# EAGLE library part M07X2 (library GW-devices)
Header 5x2 Standard 10-pin dual row 0.1" header. Commonly used with AVR-ISP. Use with Spark Fun Electronics SKU: PRT-00778
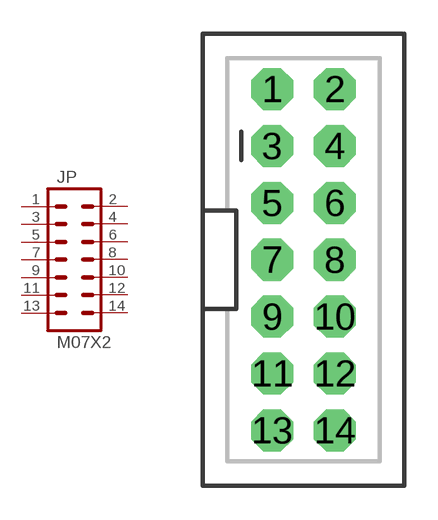
[diagram p41: symbol with the pads of 2X7-SHROUDED_LOCK; footprint 2X7-SHROUDED_LOCK]

Designator prefix JP

## M07X2SHD  [2X7-SHROUDED_LOCK]
1  1  pas
2  2  pas
3  3  pas
4  4  pas
5  5  pas
6  6  pas
7  7  pas
8  8  pas
9  9  pas
10  10  pas
11  11  pas
12  12  pas
13  13  pas
14  14  pas

## Footprint 2X7-SHROUDED_LOCK (pad centres in mm)
drill 1.016 pad 1.88 octagon: 1 -1.397,7.62; 2 1.397,7.62; 3 -1.397,5.08; 4 1.397,5.08; 5 -1.397,2.54; 6 1.397,2.54; 7 -1.397,0; 8 1.397,0; 9 -1.397,-2.54; 10 1.397,-2.54; 11 -1.397,-5.08; 12 1.397,-5.08; 13 -1.397,-7.62; 14 1.397,-7.62